# Altium footprint library SX1276_e268v01a.PcbLib: 66 footprints (part 1 of 5)
Each footprint in its own frame and in the unit in brackets; x right, y up, seen from the top. Pads: shape width x height; smd on the part's side, far side on the other; paste and mask are expansions set on the pad; w line width, h text height; cw(c..) or ccw(c..) is an arc to the next point about the centre after c.
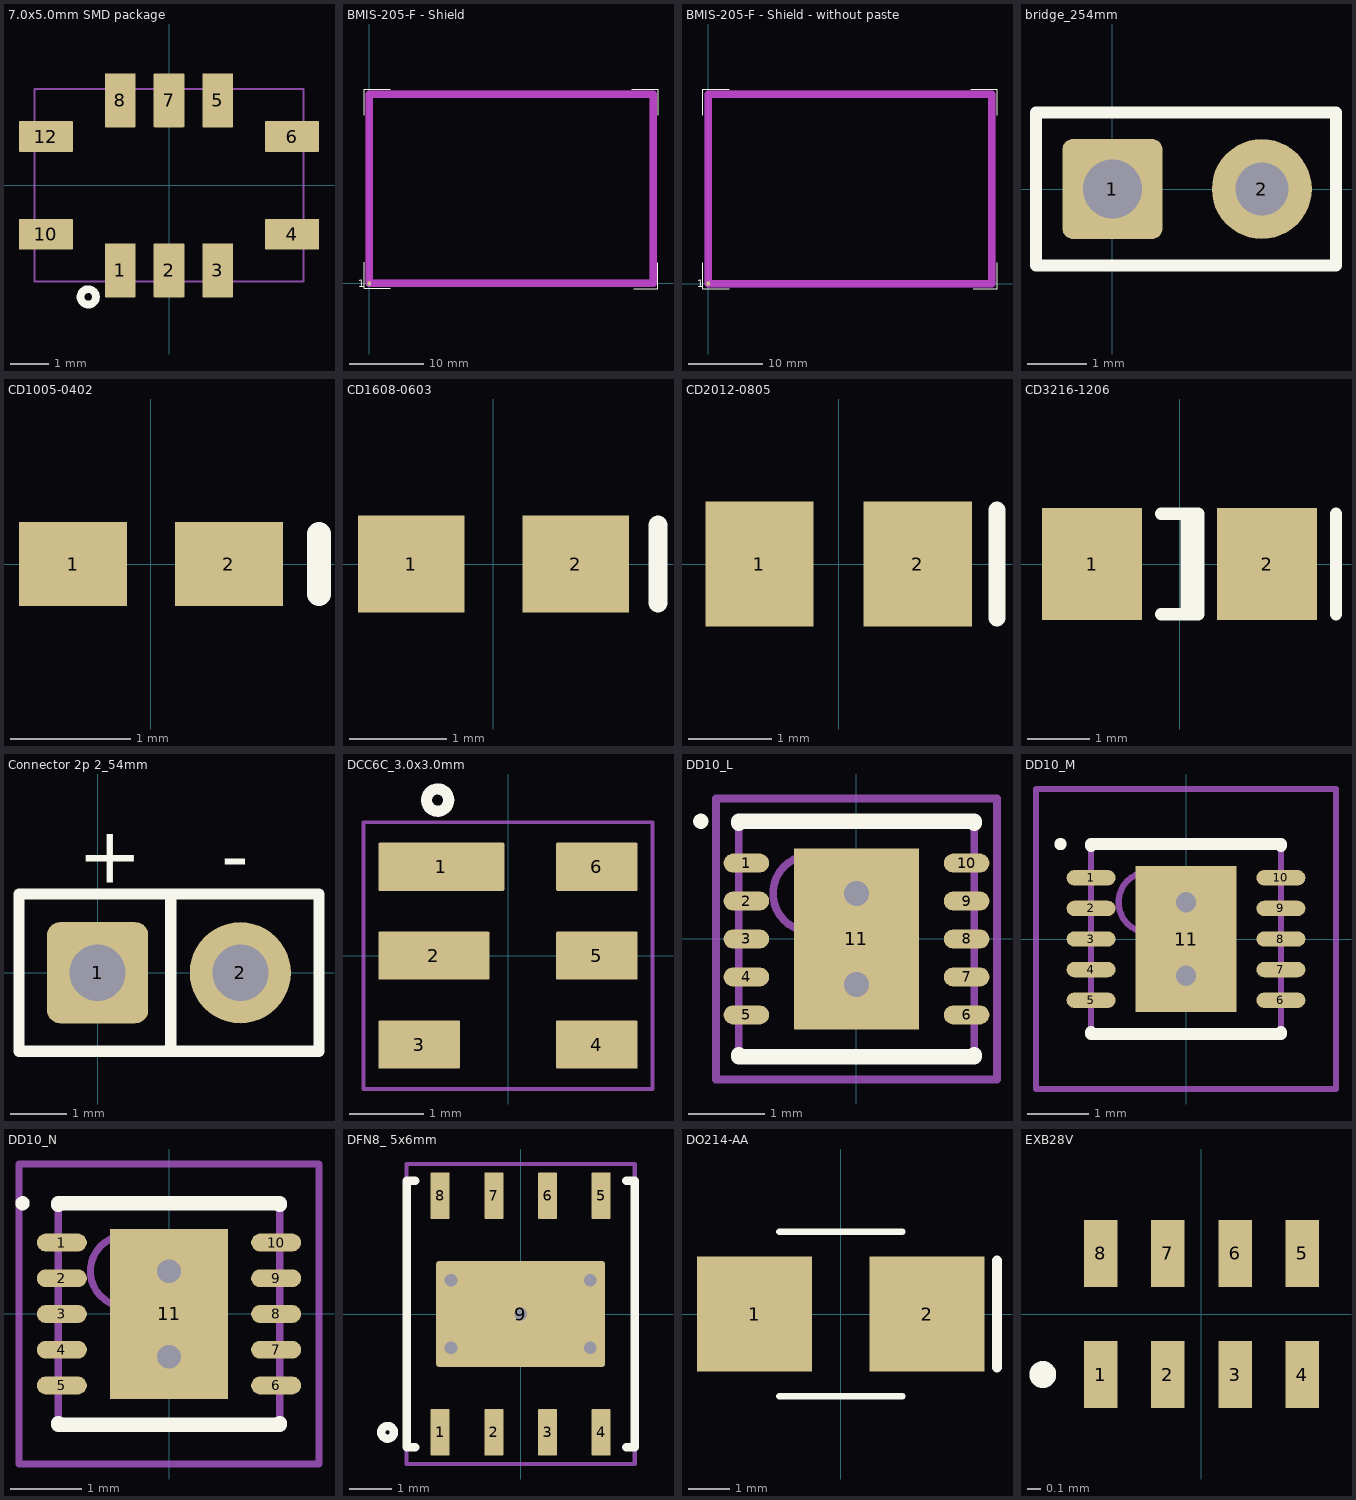
[diagram p0: the footprints below, top view; thin cyan lines are the x and y axes]

## 7.0x5.0mm SMD package [mm] "7.0x5.0mm SMD package - 10pins"
height 1.2
pads (10):
  rrect5% 0.8x1.4 smd mask+0.05: 1(-1.27,-2.21) 2(0,-2.21) 3(1.27,-2.21) 5(1.27,2.21) 7(0,2.21) 8(-1.27,2.21)
  rrect5% 1.4x0.8 smd mask+0.05: 4(3.2,-1.27) 6(3.2,1.27) 10(-3.2,-1.27) 12(-3.2,1.27)
Top Overlay:
  circle w0.2: c-2.1,-2.9 r0.2
Mechanical 15:
  lines w0.05: -3.5,-2.5 3.5,-2.5 3.5,2.5 -3.5,2.5 -3.5,-2.5
3D body: height 1, standoff 0, extent -3.5,-2.5 3.5,2.5

## BMIS-205-F - Shield [mm] "BMIS-205-F EMI Gasket - Standard Surface Mount Shields -  Laird Technologies"
height 6.5
pads (1):
  rect 0.5x0.5 smd paste-1 mask+0.05: 1(0,0)
Top Overlay:
  lines w0.1: -0.65,2.85 -0.65,-0.65 2.85,-0.65 ; -0.65,22.55 -0.65,26.05 2.85,26.05 ; 35.25,26.05 38.75,26.05 38.75,22.55 ; 35.5,-0.7 38.7,-0.7 38.7,2.8
  text "1" at -1.5,-0.5 h1
Top Paste:
  region: 20.65,-0.4 17.35,-0.4 17.35,0.6 20.65,0.6
  region: 32.65,-0.4 29.35,-0.4 29.35,0.6 32.65,0.6
  region: 26.65,-0.4 23.35,-0.4 23.35,0.6 26.65,0.6
  region: 14.65,-0.4 11.35,-0.4 11.35,0.6 14.65,0.6
  region: 8.65,-0.4 5.35,-0.4 5.35,0.6 8.65,0.6
  region: 38.4,-0.4 35.35,-0.4 35.35,0.6 38.4,0.6
  region: 2.65,-0.4 -0.4,-0.4 -0.4,0.6 2.65,0.6
  region: 2.65,24.8 -0.4,24.8 -0.4,25.8 2.65,25.8
  region: 38.4,24.8 35.35,24.8 35.35,25.8 38.4,25.8
  region: 8.65,24.8 5.35,24.8 5.35,25.8 8.65,25.8
  region: 14.65,24.8 11.35,24.8 11.35,25.8 14.65,25.8
  region: 26.65,24.8 23.35,24.8 23.35,25.8 26.65,25.8
  region: 32.65,24.8 29.35,24.8 29.35,25.8 32.65,25.8
  region: 20.65,24.8 17.35,24.8 17.35,25.8 20.65,25.8
  region: -0.4,22.7 -0.4,25.8 0.6,25.8 0.6,22.7
  region: -0.4,16.75 -0.4,20.05 0.6,20.05 0.6,16.75
  region: -0.4,10.75 -0.4,14.05 0.6,14.05 0.6,10.75
  region: -0.4,5.35 -0.4,8.05 0.6,8.05 0.6,5.35
  region: -0.4,-0.4 -0.4,2.65 0.6,2.65 0.6,-0.4
  region: 37.5,-0.4 37.5,2.65 38.5,2.65 38.5,-0.4
  region: 37.5,5.35 37.5,8.05 38.5,8.05 38.5,5.35
  region: 37.5,10.75 37.5,14.05 38.5,14.05 38.5,10.75
  region: 37.5,16.75 37.5,20.05 38.5,20.05 38.5,16.75
  region: 37.5,22.7 37.5,25.8 38.5,25.8 38.5,22.7
Top Solder:
  region: 37.5,22.7 37.5,25.8 38.5,25.8 38.5,22.7
  region: 37.5,16.75 37.5,20.05 38.5,20.05 38.5,16.75
  region: 37.5,10.75 37.5,14.05 38.5,14.05 38.5,10.75
  region: 37.5,5.35 37.5,8.05 38.5,8.05 38.5,5.35
  region: 37.5,-0.4 37.5,2.65 38.5,2.65 38.5,-0.4
  region: -0.4,-0.4 -0.4,2.65 0.6,2.65 0.6,-0.4
  region: -0.4,5.35 -0.4,8.05 0.6,8.05 0.6,5.35
  region: -0.4,10.75 -0.4,14.05 0.6,14.05 0.6,10.75
  region: -0.4,16.75 -0.4,20.05 0.6,20.05 0.6,16.75
  region: -0.4,22.7 -0.4,25.8 0.6,25.8 0.6,22.7
  region: 20.65,24.8 17.35,24.8 17.35,25.8 20.65,25.8
  region: 32.65,24.8 29.35,24.8 29.35,25.8 32.65,25.8
  region: 26.65,24.8 23.35,24.8 23.35,25.8 26.65,25.8
  region: 14.65,24.8 11.35,24.8 11.35,25.8 14.65,25.8
  region: 8.65,24.8 5.35,24.8 5.35,25.8 8.65,25.8
  region: 38.4,24.8 35.35,24.8 35.35,25.8 38.4,25.8
  region: 2.65,24.8 -0.4,24.8 -0.4,25.8 2.65,25.8
  region: 2.65,-0.4 -0.4,-0.4 -0.4,0.6 2.65,0.6
  region: 38.4,-0.4 35.35,-0.4 35.35,0.6 38.4,0.6
  region: 8.65,-0.4 5.35,-0.4 5.35,0.6 8.65,0.6
  region: 14.65,-0.4 11.35,-0.4 11.35,0.6 14.65,0.6
  region: 26.65,-0.4 23.35,-0.4 23.35,0.6 26.65,0.6
  region: 32.65,-0.4 29.35,-0.4 29.35,0.6 32.65,0.6
  region: 20.65,-0.4 17.35,-0.4 17.35,0.6 20.65,0.6
Mechanical 15 keep-out:
  lines w1: 0,0 38.1,0 38.1,25.4 0,25.4 0,0

## BMIS-205-F - Shield - without paste [mm] "BMIS-205-F EMI Gasket - Standard Surface Mount Shields -  Laird Technologies"
height 6.5
pads (1):
  rect 0.5x0.5 smd paste-1 mask+0.05: 1(0,0)
Top Overlay:
  lines w0.1: -0.7,2.8 -0.7,-0.7 2.8,-0.7 ; -0.7,22.6 -0.7,26.1 2.8,26.1 ; 35.3,26.1 38.8,26.1 38.8,22.6 ; 35.6,-0.7 38.8,-0.7 38.8,2.8
  text "1" at -1.5,-0.5 h1
Top Solder:
  region: 37.5,22.7 37.5,25.8 38.5,25.8 38.5,22.7
  region: 37.5,16.75 37.5,20.05 38.5,20.05 38.5,16.75
  region: 37.5,10.75 37.5,14.05 38.5,14.05 38.5,10.75
  region: 37.5,5.35 37.5,8.05 38.5,8.05 38.5,5.35
  region: 37.5,-0.4 37.5,2.65 38.5,2.65 38.5,-0.4
  region: -0.4,-0.4 -0.4,2.65 0.6,2.65 0.6,-0.4
  region: -0.4,5.35 -0.4,8.05 0.6,8.05 0.6,5.35
  region: -0.4,10.75 -0.4,14.05 0.6,14.05 0.6,10.75
  region: -0.4,16.75 -0.4,20.05 0.6,20.05 0.6,16.75
  region: -0.4,22.7 -0.4,25.8 0.6,25.8 0.6,22.7
  region: 20.65,24.8 17.35,24.8 17.35,25.8 20.65,25.8
  region: 32.65,24.8 29.35,24.8 29.35,25.8 32.65,25.8
  region: 26.65,24.8 23.35,24.8 23.35,25.8 26.65,25.8
  region: 14.65,24.8 11.35,24.8 11.35,25.8 14.65,25.8
  region: 8.65,24.8 5.35,24.8 5.35,25.8 8.65,25.8
  region: 38.4,24.8 35.35,24.8 35.35,25.8 38.4,25.8
  region: 2.65,24.8 -0.4,24.8 -0.4,25.8 2.65,25.8
  region: 2.65,-0.4 -0.4,-0.4 -0.4,0.6 2.65,0.6
  region: 38.4,-0.4 35.35,-0.4 35.35,0.6 38.4,0.6
  region: 8.65,-0.4 5.35,-0.4 5.35,0.6 8.65,0.6
  region: 14.65,-0.4 11.35,-0.4 11.35,0.6 14.65,0.6
  region: 26.65,-0.4 23.35,-0.4 23.35,0.6 26.65,0.6
  region: 32.65,-0.4 29.35,-0.4 29.35,0.6 32.65,0.6
  region: 20.65,-0.4 17.35,-0.4 17.35,0.6 20.65,0.6
Mechanical 15 keep-out:
  lines w1: 0,0 38.1,0 38.1,25.4 0,25.4 0,0

## bridge_254mm [mm] "Generic Bridge 2.54mm, 2 Leads 0.9mm;"
height 1
pads (2):
  rrect20% 1.7x1.7 hole 1 paste+0 mask+0.05: 1(0,0)
  round 1.7 hole 0.9 paste+0 mask+0.05: 2(2.54,0)
Top Overlay:
  lines w0.2: -1.3,-1.3 -1.3,1.3 3.8,1.3 3.8,-1.3 -1.3,-1.3

## CD1005-0402 [mm] "Chip Diode; Body 1.0 x 0.5 mm (LxW typ)"
height 0.6
pads (2):
  rect 0.9x0.7 smd mask+0.05: 1(-0.65,0) 2(0.65,0)
Top Overlay:
  lines w0.2: 1.4,-0.25 1.4,0.25

## CD1608-0603 [mm] "Chip Diode; Body 1.6 x 0.8 mm (LxW typ)"
height 0.85
pads (2):
  rect 1.1x1 smd mask+0.05: 1(-0.85,0) 2(0.85,0)
Top Overlay:
  lines w0.2: 1.7,-0.4 1.7,0.4

## CD2012-0805 [mm] "Chip Diode; Body 2.0 x 1.3 mm (LxW typ)"
height 1.1
pads (2):
  rect 1.3x1.5 smd mask+0.05: 1(-0.95,0) 2(0.95,0)
Top Overlay:
  lines w0.2: 1.9,-0.65 1.9,0.65

## CD3216-1206 [mm] "Chip Diode; Body 3.2 x 1.6 mm (LxW typ)"
height 1.35
pads (2):
  rect 1.6x1.8 smd mask+0.05: 1(-1.4,0) 2(1.4,0)
Top Overlay:
  lines w0.2: -0.3,-0.8 0.3,-0.8 0.3,0.8 -0.3,0.8 ; 0.11,-0.8 0.11,0.8 ; 2.5,-0.8 2.5,0.8

## Connector 2p 2_54mm [mm] "Generic connector 2.54mm, 2 Leads 1mm;"
height 1
pads (2):
  rrect25% 1.8x1.8 hole 1 paste+0 mask+0.05: 1(0,0)
  round 1.8 hole 1 paste+0 mask+0.05: 2(2.54,0)
Top Overlay:
  lines w0.2: 1.3,-1.4 1.3,1.4 ; -1.4,-1.4 3.94,-1.4 3.94,1.4 -1.4,1.4 -1.4,-1.4
  text "+" at -0.35,1.6 h1
  text "-" at 2.2,1.6 h1

## DCC6C_3.0x3.0mm [mm] "DCC6C footprint, 3.0x3.0mm"
height 1.1
pads (6):
  rrect5% 1.7x0.65 smd mask+0.05: 1(-0.9,1.2)
  rrect5% 1.5x0.65 smd mask+0.05: 2(-1,0)
  rrect5% 1.1x0.65 smd mask+0.05: 3(-1.2,-1.2) 4(1.2,-1.2) 5(1.2,0) 6(1.2,1.2)
Top Overlay:
  circle w0.15: c-0.95,2.1 r0.15
Mechanical 15:
  lines w0.05: -1.95,-1.8 1.95,-1.8 1.95,1.8 -1.95,1.8 -1.95,-1.8
3D body: height 1, standoff 0, extent -1.5,-1.5 1.5,1.5

## DD10_L [mm] "SON, 10-Leads, Body 3x3 mm, Pitch 0.5mm, IPC High Density"
height 0.8
pads (11):
  oval 0.6x0.25 smd: 1(-1.45,1) 2(-1.45,0.5) 3(-1.45,0) 4(-1.45,-0.5) 5(-1.45,-1) 6(1.45,-1) 7(1.45,-0.5) 8(1.45,0) 9(1.45,0.5) 10(1.45,1)
  rect 1.65x2.38 smd: 11(0,0)
via 0,-0.6 diameter 0.66 hole 0.33
via 0,0.6 diameter 0.66 hole 0.33
Top Overlay:
  circle w0.1: c-2.05,1.55 r0.05
  lines w0.2: -1.55,-1.525 -1.55,-1.55 1.55,-1.55 1.55,-1.525 ; -1.55,1.525 -1.55,1.55 1.55,1.55 1.55,1.525
Mechanical 13:
  circle w0.1: c-0.6,0.6 r0.5
  lines w0.1: -1.55,-1.55 -1.55,1.55 1.55,1.55 1.55,-1.55 -1.55,-1.55
Mechanical 15:
  lines w0.1: -0.5,0 0.5,0 ; 0,-0.5 0,0.5 ; -1.85,-1.85 -1.85,1.85 1.85,1.85 1.85,-1.85 -1.85,-1.85
3D body: height 0.8, standoff 0, extent -1.55,-1.55 1.55,1.55

## DD10_M [mm] "SON, 10-Leads, Body 3x3 mm, Pitch 0.5mm, IPC Low Density"
height 0.8
pads (11):
  oval 0.8x0.25 smd: 1(-1.55,1) 2(-1.55,0.5) 3(-1.55,0) 4(-1.55,-0.5) 5(-1.55,-1) 6(1.55,-1) 7(1.55,-0.5) 8(1.55,0) 9(1.55,0.5) 10(1.55,1)
  rect 1.65x2.38 smd: 11(0,0)
via 0,0.6 diameter 0.66 hole 0.33
via 0,-0.6 diameter 0.66 hole 0.33
Top Overlay:
  circle w0.1: c-2.05,1.55 r0.05
  lines w0.2: -1.55,-1.525 -1.55,-1.55 1.55,-1.55 1.55,-1.525 ; -1.55,1.525 -1.55,1.55 1.55,1.55 1.55,1.525
Mechanical 13:
  circle w0.1: c-0.6,0.6 r0.5
  lines w0.1: -1.55,-1.55 1.55,-1.55 1.55,1.55 -1.55,1.55 -1.55,-1.55
Mechanical 15:
  lines w0.1: -0.5,0 0.5,0 ; 0,-0.5 0,0.5 ; -2.45,-2.45 2.45,-2.45 2.45,2.45 -2.45,2.45 -2.45,-2.45
3D body: height 0.8, standoff 0, extent -1.55,-1.55 1.55,1.55

## DD10_N [mm] "SON, 10-Leads, Body 3x3 mm, Pitch 0.5mm, IPC Medium Density"
height 0.8
pads (11):
  oval 0.7x0.25 smd: 1(-1.5,1) 2(-1.5,0.5) 3(-1.5,0) 4(-1.5,-0.5) 5(-1.5,-1) 6(1.5,-1) 7(1.5,-0.5) 8(1.5,0) 9(1.5,0.5) 10(1.5,1)
  rect 1.65x2.38 smd: 11(0,0)
via 0,0.6 diameter 0.66 hole 0.33
via 0,-0.6 diameter 0.66 hole 0.33
Top Overlay:
  circle w0.1: c-2.05,1.55 r0.05
  lines w0.2: -1.55,-1.525 -1.55,-1.55 1.55,-1.55 1.55,-1.525 ; -1.55,1.525 -1.55,1.55 1.55,1.55 1.55,1.525
Mechanical 13:
  circle w0.1: c-0.6,0.6 r0.5
  lines w0.1: -1.55,-1.55 1.55,-1.55 1.55,1.55 -1.55,1.55 -1.55,-1.55
Mechanical 15:
  lines w0.1: -0.5,0 0.5,0 ; 0,-0.5 0,0.5 ; -2.1,-2.1 2.1,-2.1 2.1,2.1 -2.1,2.1 -2.1,-2.1
3D body: height 0.8, standoff 0, extent -1.55,-1.55 1.55,1.55

## DFN8_ 5x6mm [mm] "8 Leads, Body 5x6mm, pitch 1.27mm, DFN8"
height 0.9
pads (9):
  rrect10% 0.45x1.1 smd paste+0 mask+0.05: 1(-1.905,-2.8) 2(-0.635,-2.8) 3(0.635,-2.8) 4(1.905,-2.8) 5(1.905,2.8) 6(0.635,2.8) 7(-0.635,2.8) 8(-1.905,2.8)
  rrect5% 4x2.5 smd paste+0 mask+0.05: 9(0,0)
via -1.65,0.8 diameter 0.6 hole 0.3
via -1.65,-0.8 diameter 0.6 hole 0.3
via 0,0 diameter 0.6 hole 0.3
via 1.65,-0.8 diameter 0.6 hole 0.3
via 1.65,0.8 diameter 0.6 hole 0.3
Top Overlay:
  circle w0.2: c-3.15,-2.8 r0.15
  lines w0.2: -2.5,-3.15 -2.7,-3.15 -2.7,3.15 -2.5,3.15 ; 2.5,-3.15 2.7,-3.15 2.7,3.15 2.5,3.15
Top Paste:
  rectangle: -1.4,-0.8 1.4,0.8
Mechanical 15:
  lines w0.1: -2.7,-3.55 2.7,-3.55 2.7,3.55 -2.7,3.55 -2.7,-3.55
3D body: height 12, standoff 0, extent -2.5,-3 2.5,3

## DO214-AA [mm] "Chip Diode; Body 4.3 x3.6mm (LxW typ)"
height 1
pads (2):
  rect 2.8x2.8 smd mask+0.05: 1(-2.1,0) 2(2.1,0)
Top Overlay:
  lines w0.15: -1.5,-2 1.5,-2 ; -1.5,2 1.5,2
  lines w0.25: 3.8,-1.3 3.8,1.3

## EXB28V [mm] "Chip Resistor Array, (0402x4); SM; 8 Leads; Body 2.10 x 1.10 mm (LxW max)"
height 0.45
pads (8):
  rect 0.25x0.5 smd mask+0.05: 1(-0.75,-0.45) 2(-0.25,-0.45) 3(0.25,-0.45) 4(0.75,-0.45) 5(0.75,0.45) 6(0.25,0.45) 7(-0.25,0.45) 8(-0.75,0.45)
Top Overlay:
  circle w0.1: c-1.18,-0.45 r0.05